# EAGLE library part LCD_2.4 (library bontor)
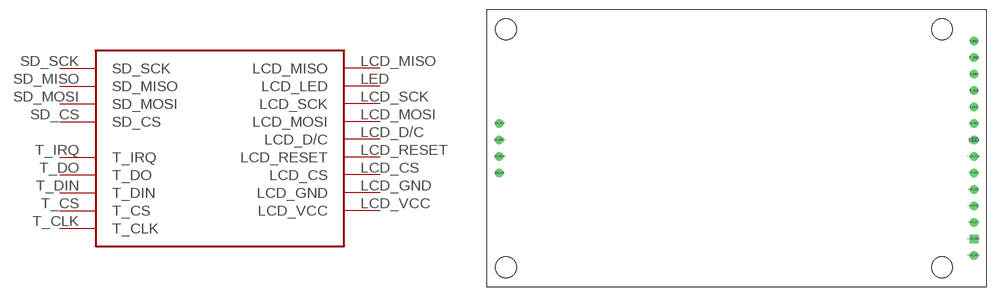
[diagram p12: symbol with the pads of LCD_TOUCH_2-4; footprint LCD_TOUCH_2-4]

Designator prefix -

## LCD_2.4  [LCD_TOUCH_2-4]
LCD_CS  LCD_CS
LCD_D/C  LCD_D/C
LCD_GND  LCD_GND  sup
LCD_MISO  LCD_MISO
LCD_MOSI  LCD_MOSI
LCD_RESET  LCD_RESET
LCD_SCK  LCD_SCK
LCD_VCC  LCD_VCC  sup
LED  LCD_LED
SD_CS  SD_CS
SD_MISO  SD_MISO
SD_MOSI  SD_MOSI
SD_SCK  SD_SCK
T_CLK  T_CLK
T_CS  T_CS
T_DIN  T_DIN
T_DO  T_DO
T_IRQ  T_IRQ

## Footprint LCD_TOUCH_2-4 (pad centres in mm)
drill 0.8: LCD_CS 36.59,-11.43; LCD_D/C 36.59,-6.35; LCD_MISO 36.59,3.81; LCD_MOSI 36.59,-3.81; LCD_RESET 36.59,-8.89; LCD_SCK 36.59,-1.27; LCD_VCC 36.59,-16.51; LED 36.59,1.27; SD_CS -36.59,-3.81; SD_MISO -36.59,1.27; SD_MOSI -36.59,-1.27; SD_SCK -36.59,3.81; T_CLK 36.59,6.35; T_CS 36.59,8.89; T_DIN 36.59,11.43; T_DO 36.59,13.97; T_IRQ 36.59,16.51
drill 0.8 square: LCD_GND 36.59,-13.97
hole 3.2 at -35.59,18.36
hole 3.2 at -35.59,-18.36
hole 3.2 at 31.67,-18.36
hole 3.2 at 31.67,18.36